# Altium footprint library FP6296.PcbLib: 1 footprints
Each footprint in its own frame and in the unit in brackets; x right, y up, seen from the top. Pads: shape width x height; smd on the part's side, far side on the other; paste and mask are expansions set on the pad; w line width, h text height; cw(c..) or ccw(c..) is an arc to the next point about the centre after c.
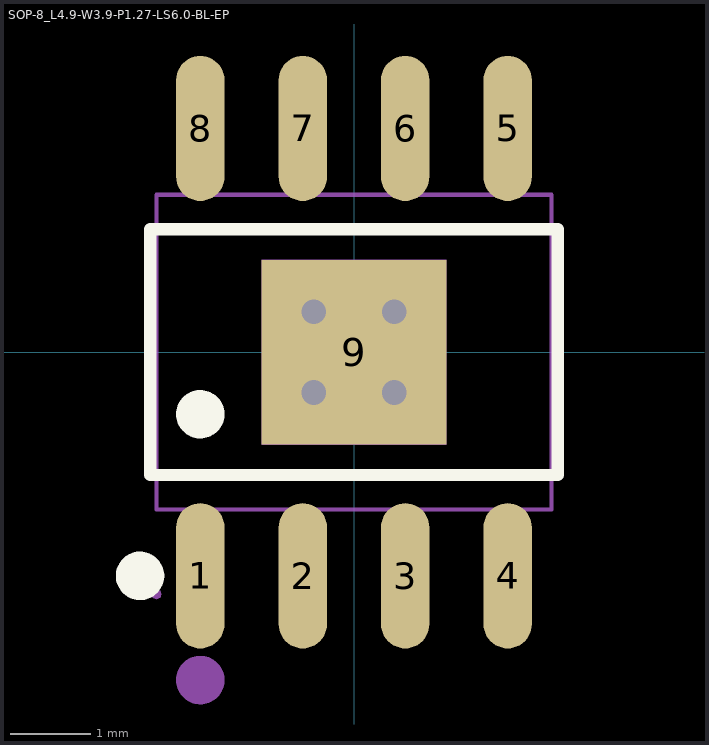
[diagram p0: the footprint, top view; thin cyan lines are the x and y axes]

## SOP-8_L4.9-W3.9-P1.27-LS6.0-BL-EP [mm]
pads (9):
  oval 0.6x1.8 smd: 1(-1.905,-2.772) 2(-0.635,-2.772) 3(0.635,-2.772) 4(1.905,-2.772) 5(1.905,2.772) 6(0.635,2.772) 7(-0.635,2.772) 8(-1.905,2.772)
  rect 2.29x2.29 smd: 9(0,0)
via -0.5,0.5 diameter 0.61 hole 0.305
via -0.5,-0.5 diameter 0.61 hole 0.305
via 0.5,-0.5 diameter 0.61 hole 0.305
via 0.5,0.5 diameter 0.61 hole 0.305
Top Overlay:
  circle w0.3: c-1.905,-0.769 r0.15
  circle w0.3: c-2.652,-2.772 r0.15
  lines w0.152: -2.526,-1.521 -2.526,1.521 2.526,1.521 2.526,-1.521 -2.526,-1.521
Mechanical 6:
  circle w0.3: c-1.905,-4.064 r0.15
Mechanical 15:
  region: -2.386,-3 -2.404,-2.955 -2.45,-2.936 -2.496,-2.955 -2.514,-3 -2.496,-3.045 -2.45,-3.064 -2.404,-3.045
  region: -2.115,-3 -2.115,-2.165 -1.695,-2.165 -1.695,-3
  region: -2.115,-2.175 -2.115,-1.94 -1.695,-1.94 -1.695,-2.175
  region: -0.845,-3 -0.845,-2.165 -0.425,-2.165 -0.425,-3
  region: -0.845,-2.175 -0.845,-1.94 -0.425,-1.94 -0.425,-2.175
  region: 0.425,-3 0.425,-2.165 0.845,-2.165 0.845,-3
  region: 0.425,-2.175 0.425,-1.94 0.845,-1.94 0.845,-2.175
  region: 1.695,-3 1.695,-2.165 2.115,-2.165 2.115,-3
  region: 1.695,-2.175 1.695,-1.94 2.115,-1.94 2.115,-2.175
  region: -2.115,3 -2.115,2.165 -1.695,2.165 -1.695,3
  region: -2.115,2.175 -2.115,1.94 -1.695,1.94 -1.695,2.175
  region: -0.845,3 -0.845,2.165 -0.425,2.165 -0.425,3
  region: -0.845,2.175 -0.845,1.94 -0.425,1.94 -0.425,2.175
  region: 0.425,3 0.425,2.165 0.845,2.165 0.845,3
  region: 0.425,2.175 0.425,1.94 0.845,1.94 0.845,2.175
  region: 1.695,3 1.695,2.165 2.115,2.165 2.115,3
  region: 1.695,2.175 1.695,1.94 2.115,1.94 2.115,2.175
  region: -1.145,-1.145 -1.145,1.145 1.145,1.145 1.145,-1.145
  lines w0.051: -2.45,-1.95 -2.45,1.95 2.45,1.95 2.45,-1.95 -2.45,-1.95